# Altium schematic symbol library KEMET.SchLib: 4 symbols
Pins are listed as number, name and electrical type; pins without a type are passive.

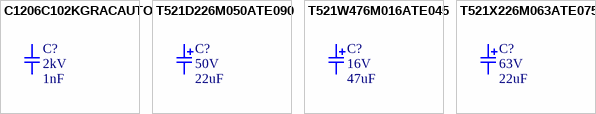
[diagram p0: symbols C1206C102KGRACAUTO to T521X226M063ATE075]

## C1206C102KGRACAUTO
designator C?  value 1nF  Voltage: 2kV
Unit Price (USD): 0.26
footprint SMD-1206C
pins: 1, 2

## T521D226M050ATE090
designator C?  value 22uF  Voltage: 50V  (hidden comment: T521D226M050ATE090)
ESR: 90mohm; Unit Price (USD): 4.73
footprint KEMET D - CAPMP7343X31N (Molded Capacitor, 2-Leads, Body 7.30x4.30mm, IPC Medium Density)
pins: 1, 2

## T521W476M016ATE045
designator C?  value 47uF  Voltage: 16V  (hidden comment: T521W476M016ATE045)
ESR: 45mohm; Unit Price (USD): 2.04
footprint KEMET W - CAPMP7343X15N (Molded Capacitor, 2-Leads, Body 7.30x4.30mm, IPC Medium Density)
pins: 1, 2

## T521X226M063ATE075
designator C?  value 22uF  Voltage: 63V  (hidden comment: T521X226M063ATE075)
ESR: 75mohm; Unit Price (USD): 7.09
footprint KEMET X - CAPMP7343X43N (Molded Capacitor, 2-Leads, Body 7.30x4.30mm, IPC Medium Density)
pins: 1, 1, 2, 2